# EAGLE library part W25Q64 (library doz)
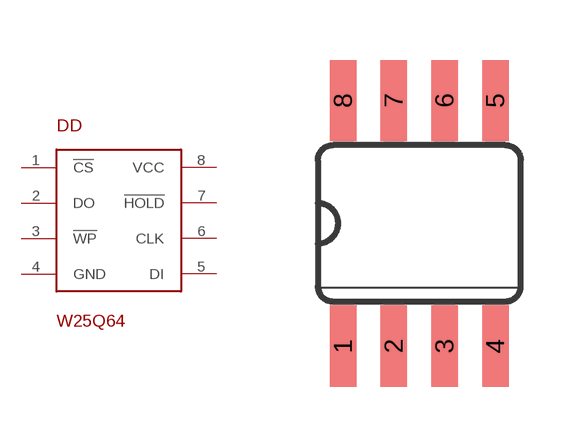
[diagram p21: symbol with the pads of SO08; footprint SO08]

Designator prefix DD

## W25Q64  [SO08]
1  !CS
2  DO
3  !WP
4  GND
5  DI
6  CLK
7  !HOLD
8  VCC

## Footprint SO08 (pad centres in mm)
SOIC 150 mil
smd 0.66 x 2.032: 1 -1.905,-3.073; 2 -0.635,-3.073; 3 0.635,-3.073; 4 1.905,-3.073; 5 1.905,3.073; 6 0.635,3.073; 7 -0.635,3.073; 8 -1.905,3.073